# Altium footprint library SOIC.PcbLib: 2 footprints
Each footprint in its own frame and in the unit in brackets; x right, y up, seen from the top. Pads: shape width x height; smd on the part's side, far side on the other; paste and mask are expansions set on the pad; w line width, h text height; cw(c..) or ccw(c..) is an arc to the next point about the centre after c.
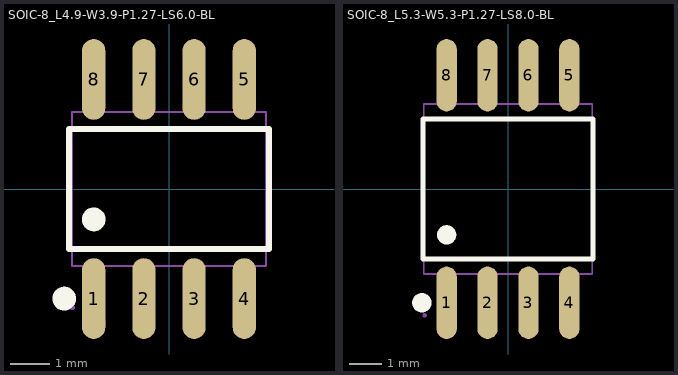
[diagram p0: the footprints below, top view; thin cyan lines are the x and y axes]

## SOIC-8_L4.9-W3.9-P1.27-LS6.0-BL [mm]
pads (8):
  oval 0.588x2.045 smd: 1(-1.905,-2.772) 2(-0.635,-2.772) 3(0.635,-2.772) 4(1.905,-2.772) 5(1.905,2.772) 6(0.635,2.772) 7(-0.635,2.772) 8(-1.905,2.772)
Top Overlay:
  circle w0.3: c-2.652,-2.772 r0.15
  circle w0.3: c-1.905,-0.769 r0.15
  lines w0.152: -2.526,-1.521 2.526,-1.521 2.526,1.521 -2.526,1.521 -2.526,-1.521
Mechanical 6:
  circle w0.3: c-1.905,-3.4 r0.15
Mechanical 15:
  region: 1.695,2.175 1.695,1.94 2.115,1.94 2.115,2.175
  region: 1.695,3 1.695,2.165 2.115,2.165 2.115,3
  region: 0.425,2.175 0.425,1.94 0.845,1.94 0.845,2.175
  region: 0.425,3 0.425,2.165 0.845,2.165 0.845,3
  region: -0.845,2.175 -0.845,1.94 -0.425,1.94 -0.425,2.175
  region: -0.845,3 -0.845,2.165 -0.425,2.165 -0.425,3
  region: -2.115,2.175 -2.115,1.94 -1.695,1.94 -1.695,2.175
  region: -2.115,3 -2.115,2.165 -1.695,2.165 -1.695,3
  region: 1.695,-2.175 1.695,-1.94 2.115,-1.94 2.115,-2.175
  region: 1.695,-3 1.695,-2.165 2.115,-2.165 2.115,-3
  region: 0.425,-2.175 0.425,-1.94 0.845,-1.94 0.845,-2.175
  region: 0.425,-3 0.425,-2.165 0.845,-2.165 0.845,-3
  region: -0.845,-2.175 -0.845,-1.94 -0.425,-1.94 -0.425,-2.175
  region: -0.845,-3 -0.845,-2.165 -0.425,-2.165 -0.425,-3
  region: -2.115,-2.175 -2.115,-1.94 -1.695,-1.94 -1.695,-2.175
  region: -2.115,-3 -2.115,-2.165 -1.695,-2.165 -1.695,-3
  region: -2.39,-3 -2.39,-2.975 -2.425,-2.94 -2.475,-2.94 -2.51,-2.975 -2.51,-3 -2.51,-3.025 -2.475,-3.06 -2.425,-3.06 -2.39,-3.025
  lines w0.051: -2.45,-1.95 2.45,-1.95 2.45,1.95 -2.45,1.95 -2.45,-1.95
3D body "U2.step": height 1.72, standoff 0, extent -2.407,-3 2.408,3

## SOIC-8_L5.3-W5.3-P1.27-LS8.0-BL [mm]
pads (8):
  oval 0.63x2.25 smd: 1(-1.905,-3.53) 2(-0.635,-3.53) 3(0.635,-3.53) 4(1.905,-3.53) 5(1.905,3.53) 6(0.635,3.53) 7(-0.635,3.53) 8(-1.905,3.53)
Top Overlay:
  circle w0.3: c-1.905,-1.424 r0.15
  circle w0.3: c-2.672,-3.53 r0.15
  lines w0.152: -2.639,-2.176 -2.639,2.176 2.639,2.176 2.639,-2.176 -2.639,-2.176
Mechanical 6:
  circle w0.3: c-1.905,-4.35 r0.15
Mechanical 15:
  region: -2.525,-3.92 -2.525,-3.895 -2.56,-3.861 -2.61,-3.861 -2.645,-3.895 -2.645,-3.92 -2.645,-3.945 -2.61,-3.979 -2.561,-3.979 -2.525,-3.945
  region: -2.13,-3.95 -2.13,-3.3 -1.68,-3.3 -1.68,-3.95
  region: -2.13,-3.31 -2.13,-2.595 -1.68,-2.595 -1.68,-3.31
  region: -0.86,-3.95 -0.86,-3.3 -0.41,-3.3 -0.41,-3.95
  region: -0.86,-3.31 -0.86,-2.595 -0.41,-2.595 -0.41,-3.31
  region: 0.41,-3.95 0.41,-3.3 0.86,-3.3 0.86,-3.95
  region: 0.41,-3.31 0.41,-2.595 0.86,-2.595 0.86,-3.31
  region: 1.68,-3.95 1.68,-3.3 2.13,-3.3 2.13,-3.95
  region: 1.68,-3.31 1.68,-2.595 2.13,-2.595 2.13,-3.31
  region: -2.13,3.95 -2.13,3.3 -1.68,3.3 -1.68,3.95
  region: -2.13,3.31 -2.13,2.595 -1.68,2.595 -1.68,3.31
  region: -0.86,3.95 -0.86,3.3 -0.41,3.3 -0.41,3.95
  region: -0.86,3.31 -0.86,2.595 -0.41,2.595 -0.41,3.31
  region: 0.41,3.95 0.41,3.3 0.86,3.3 0.86,3.95
  region: 0.41,3.31 0.41,2.595 0.86,2.595 0.86,3.31
  region: 1.68,3.95 1.68,3.3 2.13,3.3 2.13,3.95
  region: 1.68,3.31 1.68,2.595 2.13,2.595 2.13,3.31
  lines w0.051: -2.615,-2.64 -2.615,2.64 2.615,2.64 2.615,-2.64 -2.615,-2.64
3D body "U1.step": height 2.07, standoff 0, extent -2.65,-3.953 2.65,3.953